# EAGLE library part ADUM4160 (library Bus-isolators)
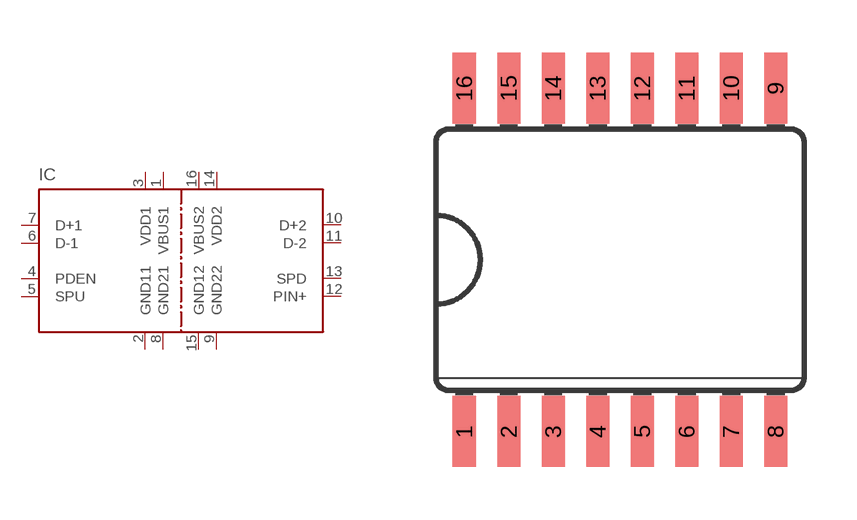
[diagram p2: symbol with the pads of SO16L; footprint SO16L]

Designator prefix IC

## ADUM4160  [SO16L]
1  VBUS1  pwr
2  GND11  pwr
3  VDD1  pwr
4  PDEN  in
5  SPU  in
6  D-1
7  D+1
8  GND21  pwr
9  GND22  pwr
10  D+2
11  D-2
12  PIN+  in
13  SPD  in
14  VDD2  pwr
15  GND12  pwr
16  VBUS2  pwr

## Footprint SO16L (pad centres in mm)
Small Outline Package
smd 0.66 x 2.032: 1 -4.445,-4.902; 2 -3.175,-4.902; 3 -1.905,-4.902; 4 -0.635,-4.902; 5 0.635,-4.902; 6 1.905,-4.902; 7 3.175,-4.902; 8 4.445,-4.902; 9 4.445,4.902; 10 3.175,4.902; 11 1.905,4.902; 12 0.635,4.902; 13 -0.635,4.902; 14 -1.905,4.902; 15 -3.175,4.902; 16 -4.445,4.902